# EAGLE library part SPD5K2-AM004 (library SPD5K2-AM004)
navigation switch series SPD5K2 Manufacturer's datasheet <http://cdn-docs.av-iq.com/dataSheet//SPD5K2.pdf>
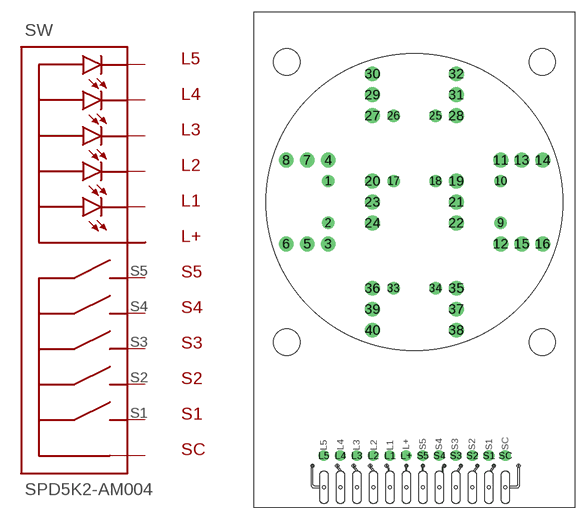
[diagram p0: symbol with the pads of SPD5K2-AM004; footprint SPD5K2-AM004]

Designator prefix SW

## SPD5K2-AM004 (CREATED_BY: PCBLayout.com; MPN: SPD5K2-AM004)  [SPD5K2-AM004]
L1  L1  pas
L2  L2  pas
L3  L3  pas
L4  L4  pas
L5  L5  pas
L+  L+
S1  S1  pas
S2  S2  pas
S3  S3  pas
S4  S4  pas
S5  S5  pas
SC  SC

## Footprint SPD5K2-AM004 (pad centres in mm)
drill 1: 1 -10.46,2.54; 2 -10.46,-2.54; 9 10.46,-2.54; 10 10.46,2.54; 17 -2.54,2.54; 18 2.54,2.54; 25 2.54,10.46; 26 -2.54,10.46; 33 -2.54,-10.46; 34 2.54,-10.46
drill 1.2: 3 -10.46,-5.08; 4 -10.46,5.08; 5 -13,-5.08; 6 -15.54,-5.08; 7 -13,5.08; 8 -15.54,5.08; 11 10.46,5.08; 12 10.46,-5.08; 13 13,5.08; 14 15.54,5.08; 15 13,-5.08; 16 15.54,-5.08; 19 5.08,2.54; 20 -5.08,2.54; 21 5.08,0; 22 5.08,-2.54; 23 -5.08,0; 24 -5.08,-2.54; 27 -5.08,10.46; 28 5.08,10.46; 29 -5.08,13; 30 -5.08,15.54; 31 5.08,13; 32 5.08,15.54; 35 5.08,-10.46; 36 -5.08,-10.46; 37 5.08,-13; 38 5.08,-15.54; 39 -5.08,-13; 40 -5.08,-15.54
drill 0.8: L1 -3,-30.75; L2 -5,-30.75; L3 -7,-30.75; L4 -9,-30.75; L5 -11,-30.75; L+ -1,-30.75; S1 9,-30.75; S2 7,-30.75; S3 5,-30.75; S4 3,-30.75; S5 1,-30.75; SC 11,-30.75
hole 3.2 at -15.5,17
hole 3.2 at 15.5,17
hole 3.2 at 15.5,-17
hole 3.2 at -15.5,-17